# Altium schematic symbol library SCH - RF - SWITCH - SKYWORKS SKY13446-374LF.SCHLIB: 1 symbol
Pins are listed as number, name and electrical type; pins without a type are passive.

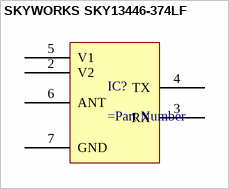
[diagram p0: symbol SKYWORKS SKY13446-374LF]

## SKYWORKS SKY13446-374LF
designator IC?
pins: 2 V2, 3 RX, 4 TX, 5 V1, 6 ANT, 7 GND